# EAGLE library part TPS3702 (library texas-instruments)
High-Accuracy, Overvoltage and Undervoltage Monitor
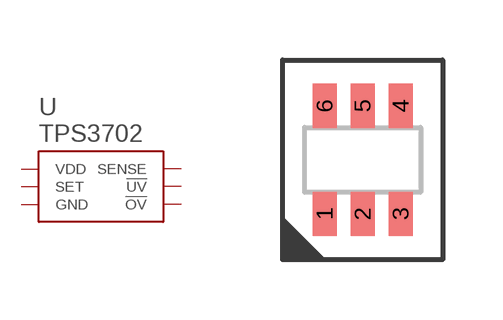
[diagram p16: symbol with the pads of R-PDSO-G6-DBV; footprint R-PDSO-G6-DBV]

Designator prefix U

## TPS3702CX10DDC  [R-PDSO-G6-DBV]
1  !UV
2  GND
3  SENSE
4  SET
5  VDD
6  !OV

## Footprint R-PDSO-G6-DBV (pad centres in mm)
smd 0.6 x 1.1: 1 -0.95,-1.35; 2 0,-1.35; 3 0.95,-1.35; 4 0.95,1.35; 5 0,1.35; 6 -0.95,1.35